# Altium footprint library W25Q64JVSSIQ.PcbLib: 1 footprints
Each footprint in its own frame and in the unit in brackets; x right, y up, seen from the top. Pads: shape width x height; smd on the part's side, far side on the other; paste and mask are expansions set on the pad; w line width, h text height; cw(c..) or ccw(c..) is an arc to the next point about the centre after c.
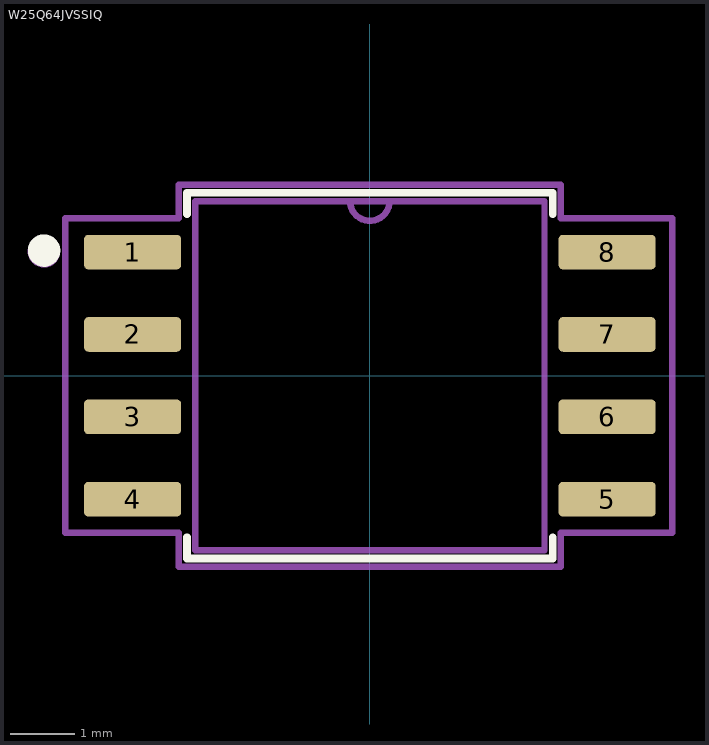
[diagram p0: the footprint, top view; thin cyan lines are the x and y axes]

## W25Q64JVSSIQ [mil]
pads (8):
  rrect25% 59x21 smd: 1(-144,75) 2(-144,25) 3(-144,-25) 4(-144,-75) 5(144,-75) 6(144,-25) 7(144,25) 8(144,75)
Top Overlay:
  circle w9.84: c-197.76,75.94 r4.92
  lines w4.72: -111,-98.12 -111,-111 111,-111 111,-98.12 ; -111,98.12 -111,111 111,111 111,98.12
Mechanical 1:
  circle w9.84: c-197.83,75.43 r4.92
  lines w3.94: -12,106 ccw(c0,106) 12,106 ; -185,-95.5 -116,-95.5 -116,-116 116,-116 116,-95.5 183.5,-95.5 183.5,95.5 116,95.5 116,116 -116,116 -116,95.5 -185,95.5 -185,-95.5 ; -106,-106 106,-106 106,106 -106,106 -106,-106
  text ".Designator" at 0,7.41 h39.37
Mechanical 15:
  text "+" at -26.24,-39.36 h78.74
3D body "WIN_SS-8_WIN.step": height 85.12, standoff 0, extent -159.49,-105.98 159.49,105.98